# Altium schematic symbol library Power_DCDC_Isolated_Converters_GOST.SchLib: 1 symbol
Pins are listed as number, name and electrical type; pins without a type are passive.

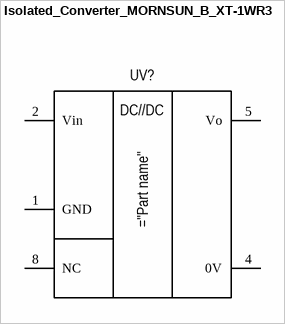
[diagram p0: symbol Isolated_Converter_MORNSUN_B_XT-1WR3]

## Isolated_Converter_MORNSUN_B_XT-1WR3
designator UV?
pins: 1 GND, 2 Vin, 4 0V, 5 Vo, 8 NC
text: DC//DC